# Altium footprint library Screw Terminal PCB Library.PcbLib: 2 footprints
Each footprint in its own frame and in the unit in brackets; x right, y up, seen from the top. Pads: shape width x height; smd on the part's side, far side on the other; paste and mask are expansions set on the pad; w line width, h text height; cw(c..) or ccw(c..) is an arc to the next point about the centre after c.
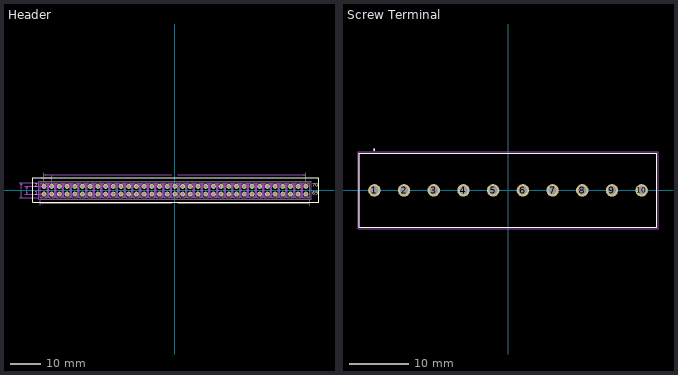
[diagram p0: the footprints below, top view; thin cyan lines are the x and y axes]

## Header [mm]
pads (70):
  round 1.62 hole 1.02: 1(-43.18,-1.27) 2(-43.18,1.27) 3(-40.64,-1.27) 4(-40.64,1.27) 5(-38.1,-1.27) 6(-38.1,1.27) 7(-35.56,-1.27) 8(-35.56,1.27) 9(-33.02,-1.27) 10(-33.02,1.27) 11(-30.48,-1.27) 12(-30.48,1.27) 13(-27.94,-1.27) 14(-27.94,1.27) 15(-25.4,-1.27) 16(-25.4,1.27) 17(-22.86,-1.27) 18(-22.86,1.27) 19(-20.32,-1.27) 20(-20.32,1.27) 21(-17.78,-1.27) 22(-17.78,1.27) 23(-15.24,-1.27) 24(-15.24,1.27) 25(-12.7,-1.27) 26(-12.7,1.27) 27(-10.16,-1.27) 28(-10.16,1.27) 29(-7.62,-1.27) 30(-7.62,1.27) 31(-5.08,-1.27) 32(-5.08,1.27) 33(-2.54,-1.27) 34(-2.54,1.27) 35(0,-1.27) 36(0,1.27) 37(2.54,-1.27) 38(2.54,1.27) 39(5.08,-1.27) 40(5.08,1.27) 41(7.62,-1.27) 42(7.62,1.27) 43(10.16,-1.27) 44(10.16,1.27) 45(12.7,-1.27) 46(12.7,1.27) 47(15.24,-1.27) 48(15.24,1.27) 49(17.78,-1.27) 50(17.78,1.27) 51(20.32,-1.27) 52(20.32,1.27) 53(22.86,-1.27) 54(22.86,1.27) 55(25.4,-1.27) 56(25.4,1.27) 57(27.94,-1.27) 58(27.94,1.27) 59(30.48,-1.27) 60(30.48,1.27) 61(33.02,-1.27) 62(33.02,1.27) 63(35.56,-1.27) 64(35.56,1.27) 65(38.1,-1.27) 66(38.1,1.27) 67(40.64,-1.27) 68(40.64,1.27) 69(43.18,-1.27) 70(43.18,1.27)
Top Overlay:
  lines w0.2: -46.863,-3.937 47.498,-3.937 47.498,4.191 -46.863,4.191 -46.863,-3.937
  text "70" at 45.241,0.635 h1.97
  text "69" at 45.241,-1.905 h1.97
  text "2" at -46.27,0.635 h1.97
  text "1" at -46.27,-1.905 h1.97
Top Solder:
  circle w0: c43.18,1.27 r0.861
  circle w0: c43.18,-1.27 r0.861
  circle w0: c40.64,1.27 r0.861
  circle w0: c40.64,-1.27 r0.861
  circle w0: c38.1,1.27 r0.861
  circle w0: c38.1,-1.27 r0.861
  circle w0: c35.56,1.27 r0.861
  circle w0: c35.56,-1.27 r0.861
  circle w0: c33.02,1.27 r0.861
  circle w0: c33.02,-1.27 r0.861
  circle w0: c30.48,1.27 r0.861
  circle w0: c30.48,-1.27 r0.861
  circle w0: c27.94,1.27 r0.861
  circle w0: c27.94,-1.27 r0.861
  circle w0: c25.4,1.27 r0.861
  circle w0: c25.4,-1.27 r0.861
  circle w0: c22.86,1.27 r0.861
  circle w0: c22.86,-1.27 r0.861
  circle w0: c20.32,1.27 r0.861
  circle w0: c20.32,-1.27 r0.861
  circle w0: c17.78,1.27 r0.861
  circle w0: c17.78,-1.27 r0.861
  circle w0: c15.24,1.27 r0.861
  circle w0: c15.24,-1.27 r0.861
  circle w0: c12.7,1.27 r0.861
  circle w0: c12.7,-1.27 r0.861
  circle w0: c10.16,1.27 r0.861
  circle w0: c10.16,-1.27 r0.861
  circle w0: c7.62,1.27 r0.861
  circle w0: c7.62,-1.27 r0.861
  circle w0: c5.08,1.27 r0.861
  circle w0: c5.08,-1.27 r0.861
  circle w0: c2.54,1.27 r0.861
  circle w0: c2.54,-1.27 r0.861
  circle w0: c0,1.27 r0.861
  circle w0: c0,-1.27 r0.861
  circle w0: c-2.54,1.27 r0.861
  circle w0: c-2.54,-1.27 r0.861
  circle w0: c-5.08,1.27 r0.861
  circle w0: c-5.08,-1.27 r0.861
  circle w0: c-7.62,1.27 r0.861
  circle w0: c-7.62,-1.27 r0.861
  circle w0: c-10.16,1.27 r0.861
  circle w0: c-10.16,-1.27 r0.861
  circle w0: c-12.7,1.27 r0.861
  circle w0: c-12.7,-1.27 r0.861
  circle w0: c-15.24,1.27 r0.861
  circle w0: c-15.24,-1.27 r0.861
  circle w0: c-17.78,1.27 r0.861
  circle w0: c-17.78,-1.27 r0.861
  circle w0: c-20.32,1.27 r0.861
  circle w0: c-20.32,-1.27 r0.861
  circle w0: c-22.86,1.27 r0.861
  circle w0: c-22.86,-1.27 r0.861
  circle w0: c-25.4,1.27 r0.861
  circle w0: c-25.4,-1.27 r0.861
  circle w0: c-27.94,1.27 r0.861
  circle w0: c-27.94,-1.27 r0.861
  circle w0: c-30.48,1.27 r0.861
  circle w0: c-30.48,-1.27 r0.861
  circle w0: c-33.02,1.27 r0.861
  circle w0: c-33.02,-1.27 r0.861
  circle w0: c-35.56,1.27 r0.861
  circle w0: c-35.56,-1.27 r0.861
  circle w0: c-38.1,1.27 r0.861
  circle w0: c-38.1,-1.27 r0.861
  circle w0: c-40.64,1.27 r0.861
  circle w0: c-40.64,-1.27 r0.861
  circle w0: c-43.18,1.27 r0.861
  circle w0: c-43.18,-1.27 r0.861
Bottom Solder:
  circle w0: c43.18,1.27 r0.861
  circle w0: c43.18,-1.27 r0.861
  circle w0: c40.64,1.27 r0.861
  circle w0: c40.64,-1.27 r0.861
  circle w0: c38.1,1.27 r0.861
  circle w0: c38.1,-1.27 r0.861
  circle w0: c35.56,1.27 r0.861
  circle w0: c35.56,-1.27 r0.861
  circle w0: c33.02,1.27 r0.861
  circle w0: c33.02,-1.27 r0.861
  circle w0: c30.48,1.27 r0.861
  circle w0: c30.48,-1.27 r0.861
  circle w0: c27.94,1.27 r0.861
  circle w0: c27.94,-1.27 r0.861
  circle w0: c25.4,1.27 r0.861
  circle w0: c25.4,-1.27 r0.861
  circle w0: c22.86,1.27 r0.861
  circle w0: c22.86,-1.27 r0.861
  circle w0: c20.32,1.27 r0.861
  circle w0: c20.32,-1.27 r0.861
  circle w0: c17.78,1.27 r0.861
  circle w0: c17.78,-1.27 r0.861
  circle w0: c15.24,1.27 r0.861
  circle w0: c15.24,-1.27 r0.861
  circle w0: c12.7,1.27 r0.861
  circle w0: c12.7,-1.27 r0.861
  circle w0: c10.16,1.27 r0.861
  circle w0: c10.16,-1.27 r0.861
  circle w0: c7.62,1.27 r0.861
  circle w0: c7.62,-1.27 r0.861
  circle w0: c5.08,1.27 r0.861
  circle w0: c5.08,-1.27 r0.861
  circle w0: c2.54,1.27 r0.861
  circle w0: c2.54,-1.27 r0.861
  circle w0: c0,1.27 r0.861
  circle w0: c0,-1.27 r0.861
  circle w0: c-2.54,1.27 r0.861
  circle w0: c-2.54,-1.27 r0.861
  circle w0: c-5.08,1.27 r0.861
  circle w0: c-5.08,-1.27 r0.861
  circle w0: c-7.62,1.27 r0.861
  circle w0: c-7.62,-1.27 r0.861
  circle w0: c-10.16,1.27 r0.861
  circle w0: c-10.16,-1.27 r0.861
  circle w0: c-12.7,1.27 r0.861
  circle w0: c-12.7,-1.27 r0.861
  circle w0: c-15.24,1.27 r0.861
  circle w0: c-15.24,-1.27 r0.861
  circle w0: c-17.78,1.27 r0.861
  circle w0: c-17.78,-1.27 r0.861
  circle w0: c-20.32,1.27 r0.861
  circle w0: c-20.32,-1.27 r0.861
  circle w0: c-22.86,1.27 r0.861
  circle w0: c-22.86,-1.27 r0.861
  circle w0: c-25.4,1.27 r0.861
  circle w0: c-25.4,-1.27 r0.861
  circle w0: c-27.94,1.27 r0.861
  circle w0: c-27.94,-1.27 r0.861
  circle w0: c-30.48,1.27 r0.861
  circle w0: c-30.48,-1.27 r0.861
  circle w0: c-33.02,1.27 r0.861
  circle w0: c-33.02,-1.27 r0.861
  circle w0: c-35.56,1.27 r0.861
  circle w0: c-35.56,-1.27 r0.861
  circle w0: c-38.1,1.27 r0.861
  circle w0: c-38.1,-1.27 r0.861
  circle w0: c-40.64,1.27 r0.861
  circle w0: c-40.64,-1.27 r0.861
  circle w0: c-43.18,1.27 r0.861
  circle w0: c-43.18,-1.27 r0.861
Mechanical 16:
  drawing of 1992 lines, arcs and shapes, not listed
  text "70" at 45.241,0.635 h1.97
  text "69" at 45.241,-1.905 h1.97
  text "2" at -46.27,0.635 h1.97
  text "1" at -46.27,-1.905 h1.97
Mechanical 40:
  lines w0: -51.399,-2.515 -45.151,-2.515 ; -51.399,2.515 -45.151,2.515 ; -50.698,-0.318 -50.698,-2.515 ; -50.698,0.318 -50.698,2.515 ; -49.533,-1.27 -43.881,-1.27 ; -49.533,1.27 -43.881,1.27 ; -48.832,-0.318 -48.832,-1.27 ; -48.832,0.318 -48.832,1.27 ; -44.45,-4.95 -44.45,-3.216 ; -44.298,4.064 -43.18,4.064 ; -43.18,4.765 -43.18,1.971 -43.18,5.781 ; -40.64,1.971 -40.64,4.765 ; -0.991,-4.249 -44.45,-4.249 ; -0.991,5.08 -43.18,5.08 ; 0.991,-4.249 44.45,-4.249 ; 0.991,5.08 43.18,5.08 ; 43.18,1.971 43.18,5.781 ; 44.45,-4.95 44.45,-3.216 ; -50.857,-1.88 -50.778,-1.943 -50.698,-2.515 ; -50.857,-1.88 -50.698,-2.007 ; -50.857,-1.88 -50.698,-2.515 ; -50.698,-2.515 -50.698,-2.007 ; -50.698,-2.515 -50.619,-1.943 -50.698,-2.007 ; -50.698,-2.515 -50.54,-1.88 -50.698,-2.007 ; -50.698,2.007 -50.698,2.515 ; -50.698,2.007 -50.778,1.943 -50.698,2.515 ; -50.698,2.007 -50.54,1.88 ; -50.698,2.007 -50.857,1.88 -50.698,2.515 ; -50.698,2.515 -50.619,1.943 -50.54,1.88 ; -50.698,2.515 -50.54,1.88 ; -48.99,-0.635 -48.911,-0.698 -48.832,-1.27 ; -48.99,-0.635 -48.832,-0.762 ; -48.99,-0.635 -48.832,-1.27 ; -48.832,-1.27 -48.832,-0.762 ; -48.832,-1.27 -48.752,-0.698 -48.832,-0.762 ; -48.832,-1.27 -48.673,-0.635 -48.832,-0.762 ; -48.832,0.762 -48.832,1.27 ; -48.832,0.762 -48.911,0.698 -48.832,1.27 ; -48.832,0.762 -48.673,0.635 ; -48.832,0.762 -48.99,0.635 -48.832,1.27 ; -48.832,1.27 -48.752,0.698 -48.673,0.635 ; -48.832,1.27 -48.673,0.635 ; -44.45,-4.249 -43.878,-4.17 -43.815,-4.091 ; -44.45,-4.249 -43.942,-4.249 ; -44.45,-4.249 -43.878,-4.329 -43.942,-4.249 ; -44.45,-4.249 -43.815,-4.408 -43.942,-4.249 ; -44.45,-4.249 -43.815,-4.091 ; -43.942,-4.249 -43.815,-4.091 ; -43.18,4.064 -40.64,4.064 ; -43.18,4.064 -42.608,4.143 -42.545,4.223 ; -43.18,4.064 -42.672,4.064 ; -43.18,4.064 -42.608,3.985 -42.672,4.064 ; -43.18,4.064 -42.545,3.905 -42.672,4.064 ; -43.18,4.064 -42.545,4.223 ; -43.18,5.08 -42.608,5.159 -42.545,5.239 ; -43.18,5.08 -42.672,5.08 ; -43.18,5.08 -42.608,5.001 -42.672,5.08 ; -43.18,5.08 -42.545,4.921 -42.672,5.08 ; -43.18,5.08 -42.545,5.239 ; -42.672,4.064 -42.545,4.223 ; -42.672,5.08 -42.545,5.239 ; -41.275,3.905 -41.212,3.985 -40.64,4.064 ; -41.275,3.905 -41.148,4.064 ; -41.275,3.905 -40.64,4.064 ; -41.148,4.064 -40.64,4.064 ; -41.148,4.064 -41.212,4.143 -40.64,4.064 ; -41.148,4.064 -41.275,4.223 -40.64,4.064 ; 42.545,4.921 42.608,5.001 43.18,5.08 ; 42.545,4.921 42.672,5.08 ; 42.545,4.921 43.18,5.08 ; 42.672,5.08 43.18,5.08 ; 42.672,5.08 42.608,5.159 43.18,5.08 ; 42.672,5.08 42.545,5.239 43.18,5.08 ; 43.815,-4.408 43.878,-4.329 44.45,-4.249 ; 43.815,-4.408 43.942,-4.249 ; 43.815,-4.408 44.45,-4.249 ; 43.942,-4.249 44.45,-4.249 ; 43.942,-4.249 43.878,-4.17 44.45,-4.249 ; 43.942,-4.249 43.815,-4.091 44.45,-4.249
  text "86.360" at -0.8,4.953 h0.39
  text "88.900" at -0.8,-4.376 h0.39
  text "2.540" at -45.809,3.937 h0.39
  text "2.540" at -49.492,-0.127 h0.39
  text "5.029" at -51.359,-0.127 h0.39
Mechanical 42:
  lines w0.1: -44.9,-2.965 44.9,-2.965 44.9,2.965 -44.9,2.965 -44.9,-2.965
3D body "HTSW-135-07-G-D.stp": height 7.89, standoff -3.04, extent -44.323,-2.514 44.577,2.515

## Screw Terminal [mm]
pads (10):
  round 2.1 hole 1.4: 1(-22.5,0) 2(-17.5,0) 3(-12.5,0) 4(-7.5,0) 5(-2.5,0) 6(2.5,0) 7(7.5,0) 8(12.5,0) 9(17.5,0) 10(22.5,0)
Top Overlay:
  circle w0.2: c-22.5,6.85 r0.1
  lines w0.127: -25,-6.25 -25,6.25 25,6.25 25,-6.25 -25,-6.25
Mechanical 13:
  circle w0.2: c-22.5,6.85 r0.1
  circle w0.2: c-22.5,6.85 r0.1
  lines w0.127: -25,-6.25 -25,6.25 ; -25,-6.25 25,-6.25 ; -25,-6.25 -25,6.25 ; -25,-6.25 25,-6.25 ; -25,6.25 25,6.25 ; -25,6.25 25,6.25 ; 25,-6.25 25,6.25 ; 25,-6.25 25,6.25
Mechanical 15:
  lines w0.05: -25.25,-6.5 -25.25,6.5 25.25,6.5 25.25,-6.5 -25.25,-6.5
3D body "c-0796690-10-e-3d.stp": height 10.51, standoff -8.29, extent -25.5,-6.313 25,6.19